# EAGLE library part PINHD-1X17 (library pinhead-new)
PIN HEADER
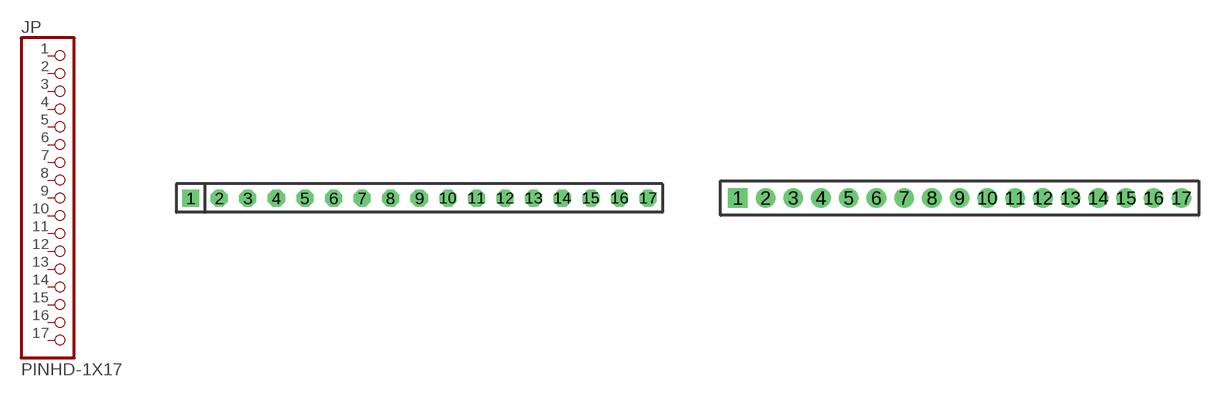
[diagram p37: symbol with the pads of 1X17; footprints 1X17, 1X17M]

Designator prefix JP

## PINHD-1X17  [1X17]
1  1  pas
2  2  pas
3  3  pas
4  4  pas
5  5  pas
6  6  pas
7  7  pas
8  8  pas
9  9  pas
10  10  pas
11  11  pas
12  12  pas
13  13  pas
14  14  pas
15  15  pas
16  16  pas
17  17  pas

## PINHD-1X17M  [1X17M]
Pads as for 1X17

## Footprint 1X17 (pad centres in mm)
PIN HEADER - 0.1"
drill 1.016 square: 1 -20.32,0
drill 1.016 octagon: 2 -17.78,0; 3 -15.24,0; 4 -12.7,0; 5 -10.16,0; 6 -7.62,0; 7 -5.08,0; 8 -2.54,0; 9 0,0; 10 2.54,0; 11 5.08,0; 12 7.62,0; 13 10.16,0; 14 12.7,0; 15 15.24,0; 16 17.78,0; 17 20.32,0

## Footprint 1X17M (pad centres in mm)
PIN HEADER - 2MM"
drill 0.914 square: 1 -16,0
drill 0.914 round: 2 -14,0; 3 -12,0; 4 -10,0; 5 -8,0; 6 -6,0; 7 -4,0; 8 -2,0; 9 0,0; 10 2,0; 11 4,0; 12 6,0; 13 8,0; 14 10,0; 15 12,0; 16 14,0; 17 16,0